# Altium integrated library GRC.IntLib: 12 symbols
Pins are listed as number, name and electrical type; pins without a type are passive.

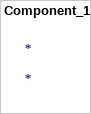
[diagram p0: symbol Component_1]

## Component_1
designator *


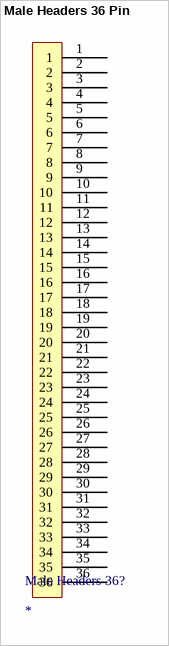
[diagram p1: symbol Male Headers 36 Pin]

## Male Headers 36 Pin
designator Male Headers 36?
footprint Male Headers 36 Pin
pins: 1, 2, 3, 4, 5, 6, 7, 8, 9, 10, 11, 12, 13, 14, 15, 16, 17, 18, 19, 20, 21, 22, 23, 24, 25, 26, 27, 28, 29, 30, 31, 32, 33, 34, 35, 36


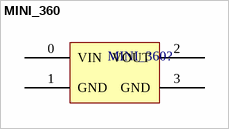
[diagram p2: symbol MINI_360]

## MINI_360
designator MINI_360?
footprint MINI_360
pins: 0 VIN, 1 GND, 2 VOUT, 3 GND


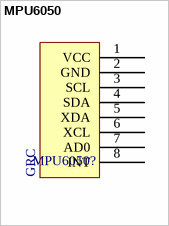
[diagram p3: symbol MPU6050]

## MPU6050
designator MPU6050?
footprint MPU6050
pins: 1 VCC, 2 GND, 3 SCL, 4 SDA, 5 XDA, 6 XCL, 7 AD0, 8 INT
text: GRC


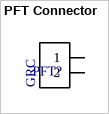
[diagram p4: symbol PFT Connector]

## PFT Connector
designator PFT?  (value not drawn)
footprint PFT Connector
pins: 1, 2
text: GRC


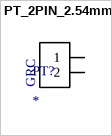
[diagram p5: symbol PT_2PIN_2.54mm]

## PT_2PIN_2.54mm
designator PT?
footprint PT_2PIN_2.54mm
pins: 1, 2
text: GRC


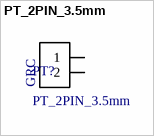
[diagram p6: symbol PT_2PIN_3.5mm]

## PT_2PIN_3.5mm
designator PT?
footprint PT_2PIN_3.5mm
pins: 1, 2
text: GRC


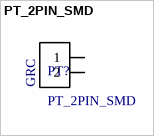
[diagram p7: symbol PT_2PIN_SMD]

## PT_2PIN_SMD
designator PT?
footprint PT_2PIN_SMD
pins: 1, 2
text: GRC


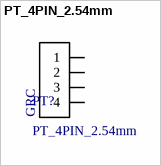
[diagram p8: symbol PT_4PIN_2.54mm]

## PT_4PIN_2.54mm
designator PT?
footprint PT_4PIN_2.54mm
pins: 1, 2, 3, 4
text: GRC


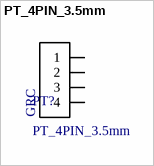
[diagram p9: symbol PT_4PIN_3.5mm]

## PT_4PIN_3.5mm
designator PT?
footprint PT_4PIN_3.5mm
pins: 1, 2, 3, 4
text: GRC


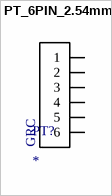
[diagram p10: symbol PT_6PIN_2.54mm]

## PT_6PIN_2.54mm
designator PT?
footprint PT_6PIN_2.54mm
pins: 1, 2, 3, 4, 5, 6
text: GRC


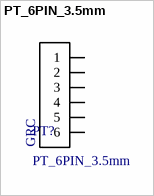
[diagram p11: symbol PT_6PIN_3.5mm]

## PT_6PIN_3.5mm
designator PT?
footprint PT_6PIN_3.5mm
pins: 1, 2, 3, 4, 5, 6
text: GRC